# Altium integrated library Capacitor_TH_2.5mm.IntLib: 1 symbol
Pins are listed as number, name and electrical type; pins without a type are passive.

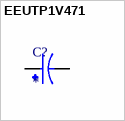
[diagram p0: symbol EEUTP1V471]

## EEUTP1V471
designator C?
CAP ALUM 470UF 20% 35V RADIAL; MP: EEU-TP1V471; MF: Panasonic; Package: RADIAL-2 Panasonic; Price: None; Availability: In Stock; Value: *; Check_prices: https://www.snapeda.com/parts/EEU-TP1V471/Panasonic/view-part/2304886/?ref=eda; SnapEDA_Link: https://www.snapeda.com/parts/EEU-TP1V471/Panasonic/view-part/2304886/?ref=snap
footprint CAPPRD500W60D1250H2000
pins: N, P